# Altium schematic symbol library TSR_3-2450N.SchLib: 1 symbol
Pins are listed as number, name and electrical type; pins without a type are passive.

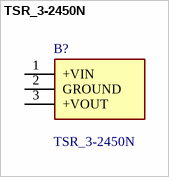
[diagram p0: symbol TSR_3-2450N]

## TSR_3-2450N
designator B?
TSR 3N Series, 3 A ,Non-Isolated DC/DC Converter (POL)  , 5 VDC ,3000 mA ,SIP3 .; Manufacturer_Name: Traco Power; Manufacturer_Part_Number: TSR 3-2450N; Geometry.Height: 10.7mm; Mouser Part Number: 495-TSR3-2450N; Mouser Price/Stock: https://www.mouser.co.uk/ProductDetail/TRACO-Power/TSR-3-2450N?qs=7%2F6SraaimPRZgUGX3XEenw%3D%3D; Datasheet Link: https://tracopower.com/tsr3n-datasheet/
footprint TSR32450N
pins: 1 +VIN, 2 GROUND, 3 +VOUT